# Altium footprint library cw32无刷驱动.PcbLib: 33 footprints (part 2 of 3)
Each footprint in its own frame and in the unit in brackets; x right, y up, seen from the top. Pads: shape width x height; smd on the part's side, far side on the other; paste and mask are expansions set on the pad; w line width, h text height; cw(c..) or ccw(c..) is an arc to the next point about the centre after c.
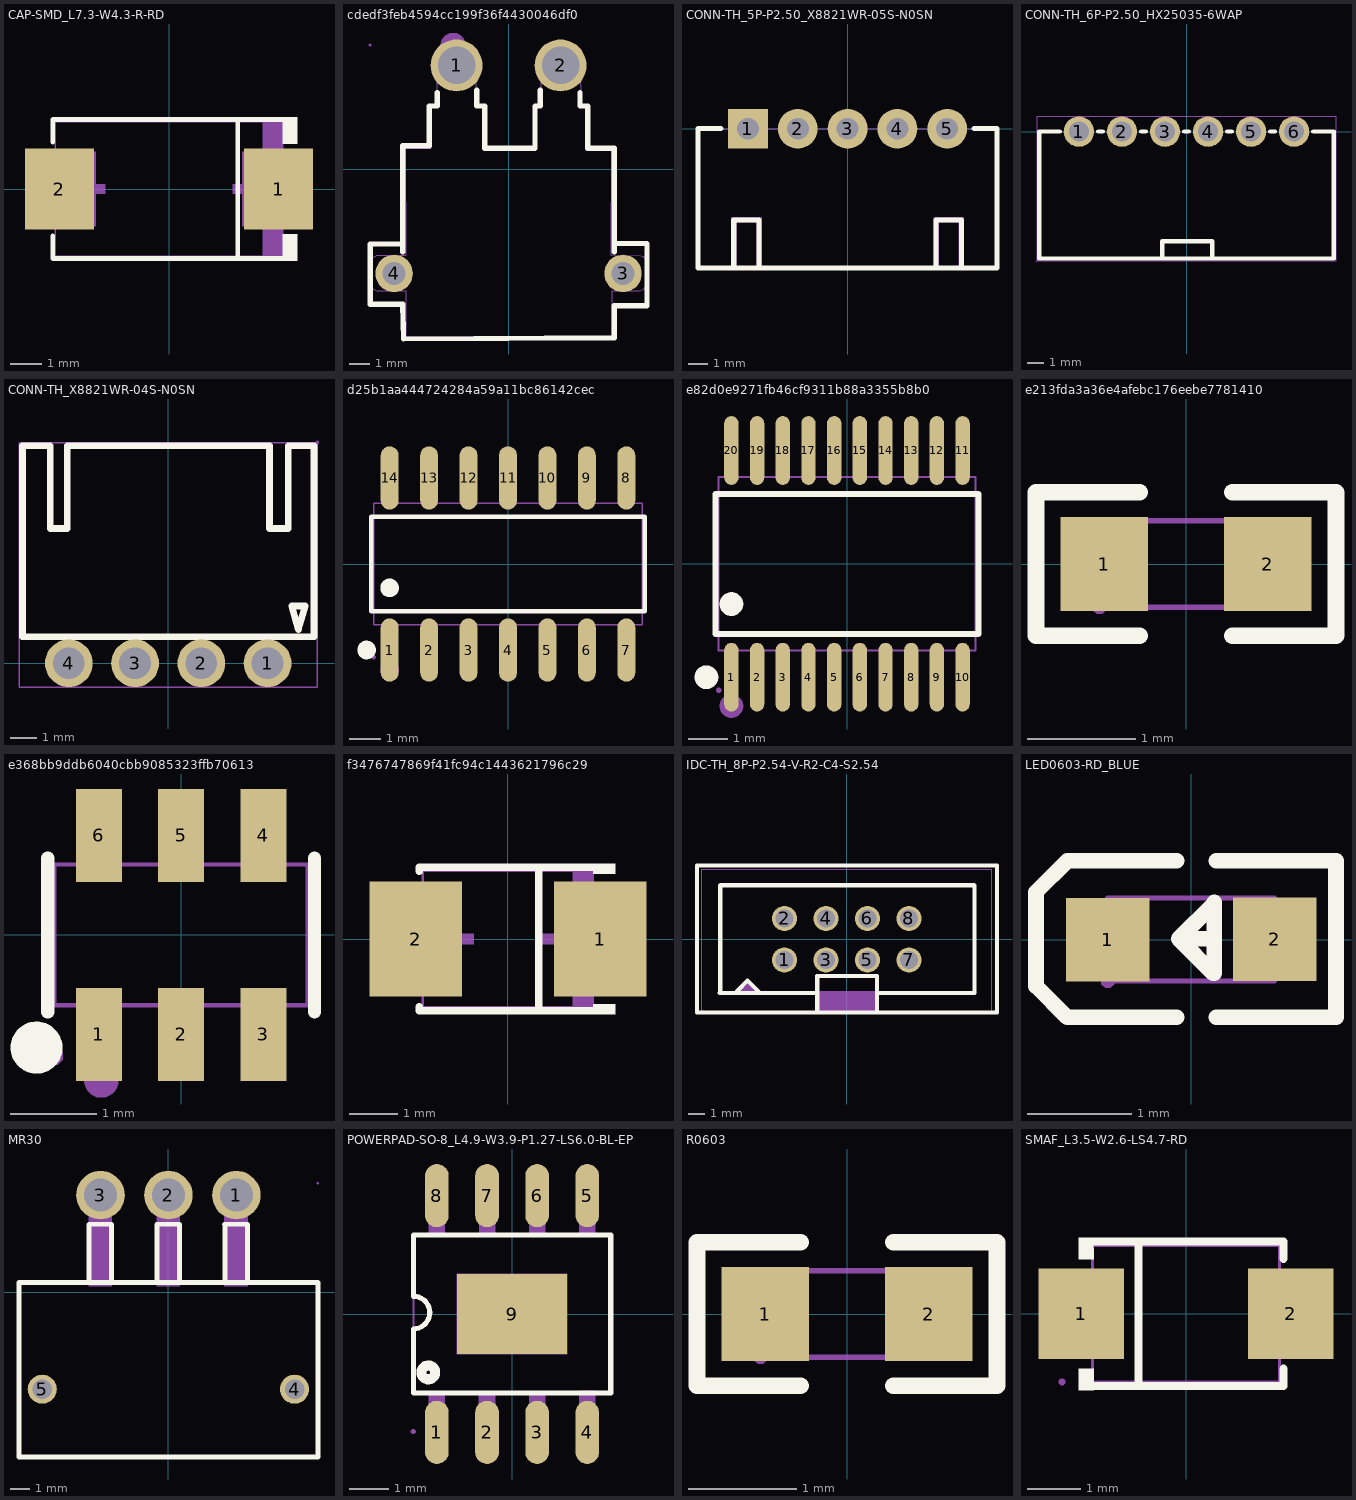
[diagram p1: the footprints below, top view; thin cyan lines are the x and y axes]

## CAP-SMD_L7.3-W4.3-R-RD [mil]
pads (2):
  rect 86.9x102 smd mask+2: 1(138.2,0) 2(-138.2,0)
Top Overlay:
  region: 143.7,-90.6 143.7,-57 161.7,-57 161.7,-90.6
  region: 143.7,90.6 143.7,57 161.7,57 161.7,90.6
  lines w6: -146.7,-59 -146.7,-87.6 146.7,-87.6 ; -146.7,59 -146.7,87.6 146.7,87.6 ; 86.8,-87.6 86.8,87.6
Mechanical 6:
  region: 143.7,84.6 143.7,42.3 118.3,42.3 118.3,84.6
  region: 143.7,-84.6 143.7,-42.3 118.3,-42.3 118.3,-84.6
  region: 112,-42.3 112,42.3 99.3,42.3 99.3,-42.3
  region: 131,-6.3 131,6.3 80.2,6.3 80.2,-6.3
  region: -131,-6.3 -131,6.3 -80.2,6.3 -80.2,-6.3
Mechanical 15:
  region: 143.7,-47.2 143.7,47.2 92.5,47.2 92.5,-47.2
  region: -143.7,-47.2 -143.7,47.2 -92.5,47.2 -92.5,-47.2
  region: 143.7,82.2 144.69,82.2 146.1,83.61 146.1,85.59 144.69,87 143.7,87 142.71,87 141.3,85.59 141.3,83.61 142.71,82.2 143.7,82.2
  lines w2: -143.7,-84.6 143.7,-84.6 143.7,84.6 -143.7,84.6 -143.7,-84.6

## cdedf3feb4594cc199f36f4430046df0 [mm]
pads (4):
  round 2.5 hole 1.8 mask+0.051: 1(-2.5,5) 2(2.5,5)
  round 1.8 hole 1.1 mask+0.051: 3(5.5,-5) 4(-5.5,-5)
Top Overlay:
  lines w0.254: -5.08,-3.95 -5.08,0.047 -5.08,1.143 -3.81,1.143 -3.81,3.048 -3.429,3.048 -3.429,3.683 ; -5.08,-3.585 -6.65,-3.585 -6.65,-6.48 -5.08,-6.48 -5.05,-8.15 5.08,-8.091 5.08,-6.549 ; -1.524,3.81 -1.524,3.048 -1.143,3.048 -1.143,1.016 1.27,1.016 1.27,3.048 1.524,3.048 1.524,3.81 ; 3.429,3.683 3.429,3.048 3.81,3.048 3.81,1.016 5.08,1.016 5.08,0.047 5.08,-3.95 ; 5.08,-6.55 6.65,-6.55 6.65,-3.559 5.08,-3.559
Mechanical 6:
  circle w0.6: c-2.667,5.969 r0.3
Mechanical 15:
  drawing of 94 lines, arcs and shapes, not listed

## CONN-TH_5P-P2.50_X8821WR-05S-N0SN [mm]
pads (5):
  rect 2x2 hole 1.1 mask+0.051: 1(-5,0)
  round 2 hole 1.1 mask+0.051: 2(-2.5,0) 3(0,0) 4(2.5,0) 5(5,0)
Top Overlay:
  lines w0.254: -7.5,-6.985 -7.5,0.015 -6.35,0.015 ; -7.499,-6.985 7.494,-6.985 ; 6.35,0.015 7.493,0.015 7.493,-6.985 ; -5.715,-6.985 -4.445,-6.985 -4.445,-4.572 -5.715,-4.572 -5.715,-6.985 ; 4.445,-6.985 5.715,-6.985 5.715,-4.572 4.445,-4.572 4.445,-6.985
Mechanical 6:
  region: 4.318,-6.985 4.318,-4.445 5.842,-4.445 5.842,-6.985 5.588,-6.985 5.588,-4.699 4.572,-4.699 4.572,-6.985
  region: -5.842,-6.985 -5.842,-4.445 -4.318,-4.445 -4.318,-6.985 -4.572,-6.985 -4.572,-4.699 -5.588,-4.699 -5.588,-6.985
Mechanical 15:
  region: 4.68,0.32 5.32,0.32 5.32,-0.32 4.68,-0.32
  region: 2.18,0.32 2.82,0.32 2.82,-0.32 2.18,-0.32
  region: -0.32,0.32 0.32,0.32 0.32,-0.32 -0.32,-0.32
  region: -2.82,0.32 -2.18,0.32 -2.18,-0.32 -2.82,-0.32
  region: -5.32,0.32 -4.68,0.32 -4.68,-0.32 -5.32,-0.32
  region: -7.56,-6.988 -7.56,-7.012 -7.525,-7.048 -7.475,-7.048 -7.44,-7.012 -7.44,-6.988 -7.44,-6.963 -7.475,-6.928 -7.525,-6.928 -7.56,-6.963 -7.56,-6.988
  lines w0.051: -7.5,-6.987 7.5,-6.987 7.5,0.013 -7.5,0.013 -7.5,-6.987

## CONN-TH_6P-P2.50_HX25035-6WAP [mm]
pads (6):
  round 1.801 hole 1.199 mask+0.051: 1(-6.35,0) 2(-3.81,0) 3(-1.27,0) 4(1.27,0) 5(3.81,0) 6(6.35,0)
Top Overlay:
  lines w0.254: -7.48,0 -8.7,0 -8.7,-7.501 8.7,-7.501 8.7,0 7.48,0 ; -5.22,0 -4.94,0 ; -2.68,0 -2.4,0 ; -1.438,-7.501 -1.438,-6.477 1.524,-6.477 1.524,-7.501 ; -0.14,0 0.14,0 ; 2.4,0 2.68,0 ; 4.94,0 5.22,0
Mechanical 15:
  region: -8.887,-7.628 -8.887,-7.653 -8.852,-7.689 -8.801,-7.689 -8.766,-7.653 -8.766,-7.628 -8.766,-7.602 -8.801,-7.567 -8.852,-7.567 -8.887,-7.602 -8.887,-7.628
  region: 5.85,0 5.85,-0.1 5.926,-0.283 6.067,-0.424 6.25,-0.5 6.45,-0.5 6.633,-0.424 6.774,-0.283 6.85,-0.1 6.85,0 6.85,0.1 6.774,0.283 6.633,0.424 6.45,0.5 6.25,0.5 6.067,0.424 5.926,0.283 5.85,0.1 5.85,0
  region: 3.31,0 3.31,-0.1 3.386,-0.283 3.527,-0.424 3.71,-0.5 3.91,-0.5 4.093,-0.424 4.234,-0.283 4.31,-0.1 4.31,0 4.31,0.1 4.234,0.283 4.093,0.424 3.91,0.5 3.71,0.5 3.527,0.424 3.386,0.283 3.31,0.1 3.31,0
  region: 0.77,0 0.77,-0.1 0.846,-0.283 0.987,-0.424 1.17,-0.5 1.37,-0.5 1.553,-0.424 1.694,-0.283 1.77,-0.1 1.77,0 1.77,0.1 1.694,0.283 1.553,0.424 1.37,0.5 1.17,0.5 0.987,0.424 0.846,0.283 0.77,0.1 0.77,0
  region: -1.77,0 -1.77,-0.1 -1.694,-0.283 -1.553,-0.424 -1.37,-0.5 -1.17,-0.5 -0.987,-0.424 -0.846,-0.283 -0.77,-0.1 -0.77,0 -0.77,0.1 -0.846,0.283 -0.987,0.424 -1.17,0.5 -1.37,0.5 -1.553,0.424 -1.694,0.283 -1.77,0.1 -1.77,0
  region: -4.31,0 -4.31,-0.1 -4.234,-0.283 -4.093,-0.424 -3.91,-0.5 -3.71,-0.5 -3.527,-0.424 -3.386,-0.283 -3.31,-0.1 -3.31,0 -3.31,0.1 -3.386,0.283 -3.527,0.424 -3.71,0.5 -3.91,0.5 -4.093,0.424 -4.234,0.283 -4.31,0.1 -4.31,0
  region: -6.85,0 -6.85,-0.1 -6.774,-0.283 -6.633,-0.424 -6.45,-0.5 -6.25,-0.5 -6.067,-0.424 -5.926,-0.283 -5.85,-0.1 -5.85,0 -5.85,0.1 -5.926,0.283 -6.067,0.424 -6.25,0.5 -6.45,0.5 -6.633,0.424 -6.774,0.283 -6.85,0.1 -6.85,0
  lines w0.051: -8.826,-7.628 -8.826,0.899 8.826,0.899 8.826,-7.628 -8.826,-7.628

## CONN-TH_X8821WR-04S-N0SN [mm]
pads (4):
  round 1.801 hole 1.199 mask+0.051: 1(3.749,0) 2(1.25,0) 3(-1.25,0) 4(-3.749,0)
Top Overlay:
  lines w0.254: -5.502,1.001 5.499,1.001 5.499,8.199 4.531,8.199 4.531,5.08 3.823,5.08 3.823,8.199 -3.81,8.199 -3.81,5.08 -4.445,5.08 -4.445,8.199 -5.502,8.199 ; -5.499,1.001 -5.499,8.199 ; 4.658,2.159 4.912,1.27 5.166,2.159 4.658,2.159
Mechanical 15:
  region: 5.565,8.326 5.565,8.301 5.601,8.265 5.651,8.265 5.687,8.301 5.687,8.326 5.687,8.351 5.651,8.387 5.601,8.387 5.565,8.351 5.565,8.326
  region: -4.249,0 -4.249,-0.1 -4.173,-0.283 -4.032,-0.424 -3.849,-0.5 -3.65,-0.5 -3.466,-0.424 -3.325,-0.283 -3.249,-0.1 -3.249,0 -3.249,0.1 -3.325,0.283 -3.466,0.424 -3.65,0.5 -3.849,0.5 -4.032,0.424 -4.173,0.283 -4.249,0.1 -4.249,0
  region: -1.75,0 -1.75,-0.1 -1.674,-0.283 -1.533,-0.424 -1.349,-0.5 -1.15,-0.5 -0.966,-0.424 -0.825,-0.283 -0.749,-0.1 -0.749,0 -0.749,0.1 -0.825,0.283 -0.966,0.424 -1.15,0.5 -1.349,0.5 -1.533,0.424 -1.674,0.283 -1.75,0.1 -1.75,0
  region: 0.749,0 0.749,-0.1 0.825,-0.283 0.966,-0.424 1.15,-0.5 1.349,-0.5 1.533,-0.424 1.674,-0.283 1.75,-0.1 1.75,0 1.75,0.1 1.674,0.283 1.533,0.424 1.349,0.5 1.15,0.5 0.966,0.424 0.825,0.283 0.749,0.1 0.749,0
  region: 3.249,0 3.249,-0.1 3.325,-0.283 3.466,-0.424 3.65,-0.5 3.849,-0.5 4.032,-0.424 4.173,-0.283 4.249,-0.1 4.249,0 4.249,0.1 4.173,0.283 4.032,0.424 3.849,0.5 3.65,0.5 3.466,0.424 3.325,0.283 3.249,0.1 3.249,0
  lines w0.051: -5.629,-0.899 -5.629,8.326 5.626,8.326 5.626,-0.899 -5.629,-0.899

## d25b1aa444724284a59a11bc86142cec [mil]
pads (14):
  oval 22.6x80.2 smd mask+2: 1(-150,-109) 2(-100,-109) 3(-50,-109) 4(0,-109) 5(50,-109) 6(100,-109) 7(150,-109) 8(150,109) 9(100,109) 10(50,109) 11(0,109) 12(-50,109) 13(-100,109) 14(-150,109)
Top Overlay:
  circle w11.8: c-179.1,-109 r5.9
  circle w11.8: c-150,-30.3 r5.9
  lines w6: -173.3,-59.9 173.3,-59.9 173.3,59.9 -173.3,59.9 -173.3,-59.9
Mechanical 6:
  circle w11.8: c-150,-133.9 r5.9
Mechanical 15:
  drawing of 33 lines, arcs and shapes, not listed

## e82d0e9271fb46cf9311b88a3355b8b0 [mil]
pads (20):
  oval 14.3x68.6 smd mask+2: 1(-115.2,-113) 2(-89.6,-113) 3(-64,-113) 4(-38.4,-113) 5(-12.8,-113) 6(12.8,-113) 7(38.4,-113) 8(64,-113) 9(89.6,-113) 10(115.2,-113) 11(115.2,113) 12(89.6,113) 13(64,113) 14(38.4,113) 15(12.8,113) 16(-12.8,113) 17(-38.4,113) 18(-64,113) 19(-89.6,113) 20(-115.2,113)
Top Overlay:
  circle w11.8: c-140.1,-113 r5.9
  circle w11.8: c-115.2,-40.1 r5.9
  lines w6: -131,-69.7 131,-69.7 131,69.7 -131,69.7 -131,-69.7
Mechanical 6:
  circle w11.8: c-115.2,-141.7 r5.9
Mechanical 15:
  drawing of 45 lines, arcs and shapes, not listed

## e213fda3a36e4afebc176eebe7781410 [mm]
pads (2):
  rect 0.806x0.864 smd mask+0.051: 1(-0.753,0) 2(0.753,0)
Top Overlay:
  lines w0.152: -0.426,-0.661 -1.385,-0.661 -1.385,0.661 -0.426,0.661 ; 0.426,-0.661 1.385,-0.661 1.385,0.661 0.426,0.661
Top Paste:
  region: -0.355,0.4 -0.355,0.172 -0.735,0.172 -0.735,-0.158 -0.355,-0.158 -0.355,-0.4 -0.405,-0.45 -1.195,-0.45 -1.245,-0.4 -1.245,0.4 -1.195,0.45 -0.405,0.45
  region: 1.195,0.45 0.395,0.45 0.345,0.4 0.345,0.172 0.715,0.172 0.715,-0.158 0.345,-0.158 0.345,-0.4 0.395,-0.45 1.195,-0.45 1.245,-0.4 1.245,0.4
Mechanical 15:
  region: 0.8,-0.4 0.8,0.4 0.5,0.4 0.5,-0.4
  region: -0.8,-0.4 -0.8,0.4 -0.5,0.4 -0.5,-0.4
  region: -0.8,-0.34 -0.825,-0.34 -0.86,-0.375 -0.86,-0.425 -0.825,-0.46 -0.8,-0.46 -0.775,-0.46 -0.74,-0.425 -0.74,-0.375 -0.775,-0.34 -0.8,-0.34
  lines w0.051: -0.8,-0.4 0.8,-0.4 0.8,0.4 -0.8,0.4 -0.8,-0.4

## e368bb9ddb6040cbb9085323ffb70613 [mm]
pads (6):
  rect 0.531x1.072 smd mask+0.051: 1(-0.95,-1.148) 2(0,-1.148) 3(0.95,-1.148) 4(0.95,1.148) 5(0,1.148) 6(-0.95,1.148)
Top Overlay:
  circle w0.3: c-1.669,-1.3 r0.15
  lines w0.152: -1.539,-0.889 -1.539,0.889 ; 1.539,-0.889 1.539,0.889
Mechanical 6:
  circle w0.201: c-0.919,-1.679 r0.099
Mechanical 15:
  region: -1.166,0.935 -0.734,0.935 -0.734,0.803 -1.166,0.803
  region: -1.166,0.925 -0.734,0.925 -0.734,1.4 -1.166,1.4
  region: -0.216,0.935 0.216,0.935 0.216,0.803 -0.216,0.803
  region: -0.216,0.925 0.216,0.925 0.216,1.4 -0.216,1.4
  region: 0.734,0.935 1.166,0.935 1.166,0.803 0.734,0.803
  region: 0.734,0.925 1.166,0.925 1.166,1.4 0.734,1.4
  region: 0.734,-0.803 1.166,-0.803 1.166,-0.935 0.734,-0.935
  region: 0.734,-0.925 1.166,-0.925 1.166,-1.4 0.734,-1.4
  region: -0.216,-0.803 0.216,-0.803 0.216,-0.935 -0.216,-0.935
  region: -0.216,-0.925 0.216,-0.925 0.216,-1.4 -0.216,-1.4
  region: -1.166,-0.803 -0.734,-0.803 -0.734,-0.935 -1.166,-0.935
  region: -1.166,-0.925 -0.734,-0.925 -0.734,-1.4 -1.166,-1.4
  region: -1.562,-1.4 -1.562,-1.441 -1.504,-1.499 -1.422,-1.499 -1.364,-1.441 -1.364,-1.4 -1.364,-1.359 -1.422,-1.3 -1.504,-1.3 -1.562,-1.359 -1.562,-1.4
  lines w0.051: -1.463,-0.813 -1.463,0.813 1.463,0.813 1.463,-0.813 -1.463,-0.813

## f3476747869f41fc94c1443621796c29 [mil]
pads (2):
  rect 74.8x93.5 smd mask+2: 1(74.8,0) 2(-74.7,0)
Top Overlay:
  region: 68.9,-61.1 68.9,-52.8 86.9,-52.8 86.9,-61.1
  region: 68.9,61.1 68.9,52.8 86.9,52.8 86.9,61.1
  lines w6: -71.9,-54.8 -71.9,-58.1 71.9,-58.1 ; -71.9,54.8 -71.9,58.1 71.9,58.1 ; 25,-58.1 25,58.1
Mechanical 6:
  region: 68.9,55.1 68.9,27.6 52.4,27.6 52.4,55.1
  region: 68.9,-55.1 68.9,-27.6 52.4,-27.6 52.4,-55.1
  region: 48.2,-27.6 48.2,27.6 40,27.6 40,-27.6
  region: 60.6,-4.1 60.6,4.1 27.6,4.1 27.6,-4.1
  region: -60.6,-4.1 -60.6,4.1 -27.6,4.1 -27.6,-4.1
Mechanical 15:
  region: 68.9,-43.3 68.9,43.3 41.3,43.3 41.3,-43.3
  region: -68.9,-43.3 -68.9,43.3 -41.3,43.3 -41.3,-43.3
  region: 71.3,55.1 71.3,56.09 69.89,57.5 67.91,57.5 66.5,56.09 66.5,55.1 66.5,54.11 67.91,52.7 69.89,52.7 71.3,54.11 71.3,55.1
  lines w2: -68.9,-55.1 68.9,-55.1 68.9,55.1 -68.9,55.1 -68.9,-55.1

## IDC-TH_8P-P2.54-V-R2-C4-S2.54 [mil]
pads (8):
  round 60 hole 43.3 mask+2: 1(-150,-50) 2(-150,50) 3(-50,-50) 4(-50,50) 5(50,-50) 6(50,50) 7(150,-50) 8(150,50)
Top Overlay:
  lines w10: -361,-176.33 -361,178 ; -360,-177 361.89,-177 ; -359.9,178 362.2,178 ; -306,-130 -72,-130 ; -305,-129 -305,129.66 ; -304.66,130 307.09,130 ; -264,-125 -239,-100 -212,-127 -212,-128 ; -72,-89 73,-89 73,-177 105,-177 ; -71,-177 -71,-92 ; 74,-130 308,-130 ; 308,-129 308,129.66 ; 362,-177 362,177.33
Mechanical 6:
  region: -70.87,-125.98 -70.87,-173.23 70.87,-173.23 70.87,-125.98
  region: -268,-130 -215,-130 -241,-104
Mechanical 15:
  region: -162.6,-37.4 -137.4,-37.4 -137.4,-62.6 -162.6,-62.6
  region: -162.6,62.6 -137.4,62.6 -137.4,37.4 -162.6,37.4
  region: -62.6,-37.4 -37.4,-37.4 -37.4,-62.6 -62.6,-62.6
  region: -62.6,62.6 -37.4,62.6 -37.4,37.4 -62.6,37.4
  region: 37.4,-37.4 62.6,-37.4 62.6,-62.6 37.4,-62.6
  region: 37.4,62.6 62.6,62.6 62.6,37.4 37.4,37.4
  region: 137.4,-37.4 162.6,-37.4 162.6,-62.6 137.4,-62.6
  region: 137.4,62.6 162.6,62.6 162.6,37.4 137.4,37.4
  region: -349.58,-176.08 -348.6,-176.08 -347.21,-174.7 -347.21,-172.74 -348.6,-171.36 -349.58,-171.36 -350.56,-171.36 -351.94,-172.74 -351.94,-174.7 -350.56,-176.08 -349.58,-176.08
  lines w2: -349.58,-173.72 349.64,-173.72 349.64,168.8 -349.58,168.8 -349.58,-173.72

## LED0603-RD_BLUE [mil]
pads (2):
  rect 31.5x31.5 smd mask+2: 1(-31.5,-0.1) 2(31.5,0.1)
Top Overlay:
  lines w5.9: -5.5,-29.4 -46.8,-29.4 -58.6,-17.6 -58.6,-13.6 -58.6,13.9 -58.6,17.9 -46.8,29.7 -5.5,29.7 ; 8.7,0.3 -4.7,0.3 ; 9.5,-29.3 54.7,-29.3 ; 9.5,29.8 54.7,29.8 54.7,-28.5 ; -4.7,0.3 8.7,13.6 8.7,14 8.7,-12.7 8.3,-12.7 -4.7,0.3
Mechanical 6:
  region: -42.1,2.4 -20.9,2.4 -20.9,-2.7 -42.1,-2.7
  region: 28.9,-10.5 28.9,10.7 34,10.7 34,-10.5
  region: 20.8,2.7 42.1,2.7 42.1,-2.4 20.8,-2.4
Mechanical 15:
  region: -31.5,-15.9 -31.5,15.6 -19.7,15.6 -19.7,-15.9
  region: 19.7,-15.6 19.7,15.9 31.5,15.9 31.5,-15.6
  region: -33.9,-15.9 -33.9,-16.89 -32.49,-18.3 -30.51,-18.3 -29.1,-16.89 -29.1,-15.9 -29.1,-14.91 -30.51,-13.5 -32.49,-13.5 -33.9,-14.91 -33.9,-15.9
  lines w2: -31.5,-15.7 31.5,-15.7 31.5,15.7 -31.5,15.7 -31.5,-15.7

## MR30 [mm]
pads (5):
  round 2.5 hole 1.7 mask+0.05: 1(3.5,5) 2(0,5) 3(-3.5,5)
  round 1.5 hole 1 mask+0.05: 4(6.5,-5) 5(-6.5,-5)
Top Overlay:
  lines w0.254: -4.09,0.5 -4.09,3.5 -4.1,3.5 -2.927,3.5 -2.927,0.5 ; -0.59,0.5 -0.59,3.5 -0.6,3.5 0.573,3.5 0.573,0.5 ; 2.91,0.5 2.91,3.5 2.9,3.5 4.073,3.5 4.073,0.5 ; -7.7,-8.5 -7.7,0.5 7.7,0.5 7.7,-8.5 -7.7,-8.5
Mechanical 6:
  region: 2.9,3.5 4.1,3.5 4.1,0.4 2.9,0.4 2.9,0.6
  region: -0.6,3.5 0.6,3.5 0.6,0.4 -0.6,0.4 -0.6,0.6
  region: -4.1,3.5 -2.9,3.5 -2.9,0.4 -4.1,0.4 -4.1,0.6
Mechanical 15:
  region: 2.89,0.31 2.89,5.61 4.09,5.61 4.09,0.31
  region: -0.61,0.31 -0.61,5.61 0.59,5.61 0.59,0.31
  region: -4.11,0.31 -4.11,5.61 -2.91,5.61 -2.91,0.31
  region: 6.5,-4.675 6.435,-4.675 6.316,-4.724 6.225,-4.816 6.175,-4.935 6.175,-5.065 6.225,-5.184 6.316,-5.276 6.435,-5.325 6.5,-5.325 6.565,-5.325 6.684,-5.276 6.776,-5.184 6.825,-5.065 6.825,-4.935 6.776,-4.816 6.684,-4.724 6.565,-4.675 6.5,-4.675
  region: -6.5,-4.675 -6.565,-4.675 -6.684,-4.724 -6.776,-4.816 -6.825,-4.935 -6.825,-5.065 -6.776,-5.184 -6.684,-5.276 -6.565,-5.325 -6.5,-5.325 -6.435,-5.325 -6.316,-5.276 -6.225,-5.184 -6.175,-5.065 -6.175,-4.935 -6.225,-4.816 -6.316,-4.724 -6.435,-4.675 -6.5,-4.675
  region: 3.5,5.6 3.381,5.6 3.16,5.509 2.991,5.34 2.9,5.119 2.9,4.881 2.991,4.66 3.16,4.491 3.381,4.4 3.5,4.4 3.619,4.4 3.84,4.491 4.008,4.66 4.1,4.881 4.1,5.119 4.008,5.34 3.84,5.509 3.619,5.6 3.5,5.6
  region: 0,5.6 -0.119,5.6 -0.34,5.509 -0.509,5.34 -0.6,5.119 -0.6,4.881 -0.509,4.66 -0.34,4.491 -0.119,4.4 0,4.4 0.119,4.4 0.34,4.491 0.509,4.66 0.6,4.881 0.6,5.119 0.509,5.34 0.34,5.509 0.119,5.6 0,5.6
  region: -3.5,5.6 -3.619,5.6 -3.84,5.509 -4.009,5.34 -4.1,5.119 -4.1,4.881 -4.009,4.66 -3.84,4.491 -3.619,4.4 -3.5,4.4 -3.381,4.4 -3.16,4.491 -2.991,4.66 -2.9,4.881 -2.9,5.119 -2.991,5.34 -3.16,5.509 -3.381,5.6 -3.5,5.6
  region: 7.7,5.67 7.675,5.67 7.64,5.635 7.64,5.585 7.675,5.55 7.7,5.55 7.725,5.55 7.76,5.585 7.76,5.635 7.725,5.67 7.7,5.67
  lines w0.051: -7.7,-8.45 7.7,-8.45 7.7,0.55 -7.7,0.55 -7.7,-8.45

## POWERPAD-SO-8_L4.9-W3.9-P1.27-LS6.0-BL-EP [mm]
pads (9):
  oval 0.6x1.6 smd mask+0.051: 1(-1.905,-3) 2(-0.635,-3) 3(0.635,-3) 4(1.905,-3) 5(1.905,3) 6(0.635,3) 7(-0.635,3) 8(-1.905,3)
  rect 2.794x2.032 smd mask+0.051: 9(0,0)
Top Overlay:
  circle w0.254: c-2.123,-1.48 r0.175
  lines w0.129: -2.499,-0.376 ccw(c-2.5,0.037) -2.5,0.45 -2.5,2 2.5,2 2.5,-2 -2.5,-2 -2.5,-0.375
Mechanical 6:
  circle w0.2: c-1.898,-3.235 r0.1
Mechanical 15:
  region: -1.397,1.016 1.397,1.016 1.397,-1.016 -1.397,-1.016
  region: -1.7,-2.573 -2.11,-2.573 -2.11,-1.953 -1.7,-1.953
  region: -1.7,-2.97 -2.11,-2.97 -2.11,-2.57 -1.7,-2.57
  region: -0.43,-2.576 -0.84,-2.576 -0.84,-1.956 -0.43,-1.956
  region: -0.43,-2.972 -0.84,-2.972 -0.84,-2.572 -0.43,-2.572
  region: 0.84,-2.573 0.43,-2.573 0.43,-1.953 0.84,-1.953
  region: 0.84,-2.97 0.43,-2.97 0.43,-2.57 0.84,-2.57
  region: 2.11,-2.568 1.7,-2.568 1.7,-1.948 2.11,-1.948
  region: 2.11,-2.962 1.7,-2.962 1.7,-2.562 2.11,-2.562
  region: -1.7,1.962 -2.11,1.962 -2.11,2.582 -1.7,2.582
  region: -1.7,2.577 -2.11,2.577 -2.11,2.977 -1.7,2.977
  region: -0.427,1.99 -0.837,1.99 -0.837,2.61 -0.427,2.61
  region: -0.43,2.605 -0.84,2.605 -0.84,3.005 -0.43,3.005
  region: 0.843,1.982 0.433,1.982 0.433,2.602 0.843,2.602
  region: 0.84,2.597 0.43,2.597 0.43,2.997 0.84,2.997
  region: 2.11,1.962 1.7,1.962 1.7,2.582 2.11,2.582
  region: 2.11,2.58 1.7,2.58 1.7,2.98 2.11,2.98
  region: -2.506,-3.036 -2.481,-3.036 -2.446,-3.001 -2.446,-2.952 -2.481,-2.916 -2.506,-2.916 -2.531,-2.916 -2.566,-2.952 -2.566,-3.001 -2.531,-3.036 -2.506,-3.036
  lines w0.051: -2.5,-1.97 -2.5,2.03 2.5,2.03 2.5,-1.97 -2.5,-1.97

## R0603 [mm]
pads (2):
  rect 0.806x0.864 smd mask+0.051: 1(-0.753,0) 2(0.753,0)
Top Overlay:
  lines w0.152: -0.426,-0.661 -1.385,-0.661 -1.385,0.661 -0.426,0.661 ; 0.426,-0.661 1.385,-0.661 1.385,0.661 0.426,0.661
Top Paste:
  region: 1.195,0.45 0.395,0.45 0.345,0.4 0.345,0.172 0.715,0.172 0.715,-0.158 0.345,-0.158 0.345,-0.4 0.395,-0.45 1.195,-0.45 1.245,-0.4 1.245,0.4
  region: -0.355,0.4 -0.355,0.172 -0.735,0.172 -0.735,-0.158 -0.355,-0.158 -0.355,-0.4 -0.405,-0.45 -1.195,-0.45 -1.245,-0.4 -1.245,0.4 -1.195,0.45 -0.405,0.45
Mechanical 15:
  region: -0.86,-0.4 -0.86,-0.425 -0.825,-0.46 -0.775,-0.46 -0.74,-0.425 -0.74,-0.4 -0.74,-0.375 -0.775,-0.34 -0.825,-0.34 -0.86,-0.375 -0.86,-0.4
  region: -0.8,-0.4 -0.8,0.4 -0.5,0.4 -0.5,-0.4
  region: 0.8,-0.4 0.8,0.4 0.5,0.4 0.5,-0.4
  lines w0.051: -0.8,-0.4 -0.8,0.4 0.8,0.4 0.8,-0.4 -0.8,-0.4

## SMAF_L3.5-W2.6-LS4.7-RD [mil]
pads (2):
  rect 63x66.9 smd mask+2: 1(-77.2,0) 2(77.2,0)
Top Overlay:
  region: -68.5,55.9 -79.1,55.9 -79.1,40.2 -68.1,40.2
  region: -79.1,-56.3 -68.1,-56.3 -68.1,-40.5 -79.1,-40.5
  lines w6: -71.9,-53.2 71.9,-53.2 71.9,-40.6 ; -71.9,53.2 71.9,53.2 71.9,40.6 ; -35.1,-53.2 -35.1,53.2
Mechanical 6:
  region: -103.6,7.2 -103.6,-4.8 -55.4,-4.8 -55.4,7.2
  region: 95.2,3.3 95.2,-8.8 47,-8.8 47,3.3
  region: 65.1,-26.8 77.2,-26.8 77.2,21.3 65.1,21.3
Mechanical 15:
  region: -89.1,-50.2 -89.1,-49.21 -90.51,-47.8 -92.49,-47.8 -93.9,-49.21 -93.9,-50.2 -93.9,-51.19 -92.49,-52.6 -90.51,-52.6 -89.1,-51.19 -89.1,-50.2
  region: -91.5,-28.5 -91.5,28.5 -52.2,28.5 -52.2,-28.5
  region: 91.5,-28.5 91.5,28.5 52.2,28.5 52.2,-28.5
  lines w2: -68.9,-50.2 -68.9,50.2 68.9,50.2 68.9,-50.2 -68.9,-50.2